# Altium schematic symbol library SB.SCHLIB: 12 symbols
Pins are listed as number, name and electrical type; pins without a type are passive.

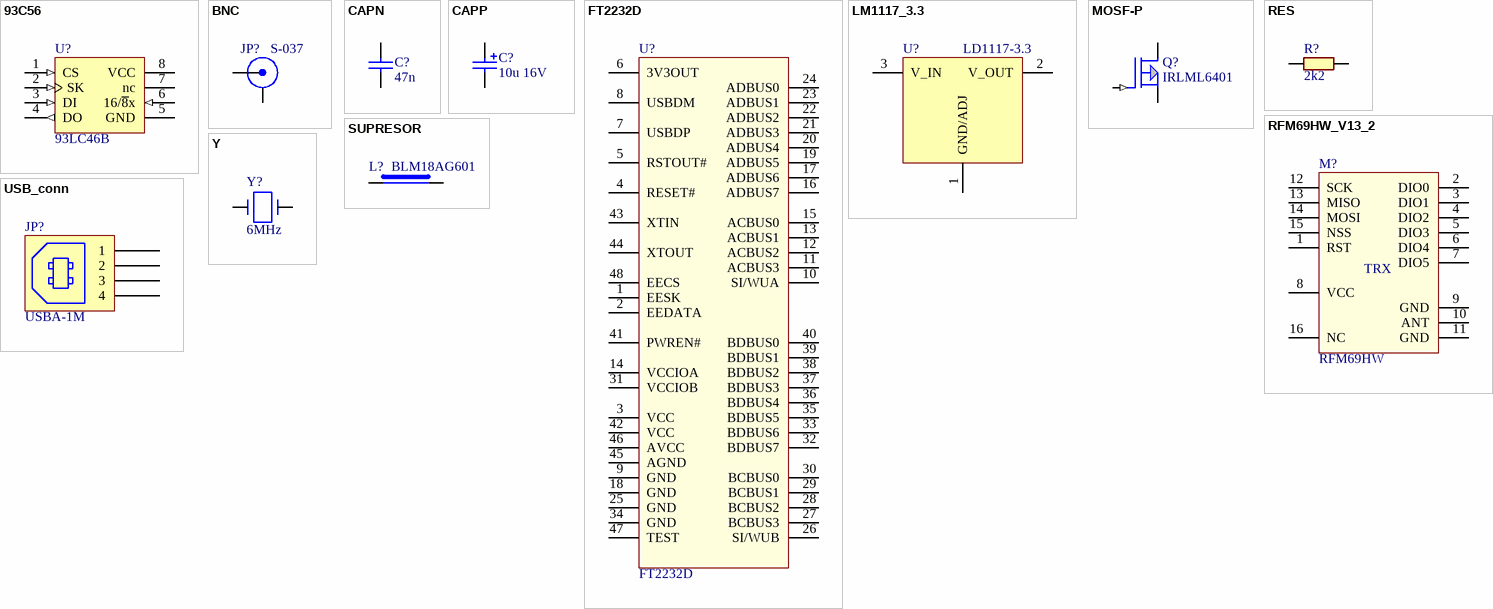
[diagram p0: symbols 93C56 to Y]

## 93C56
designator U?, comment 93LC46B
3-wire EEPROM; Вид: Мікросхема; Производитель: *; Допустимая замена: *; Цена: *; PDF файл: *; Температурный диапазон: *; Тип: 93LC46B; Корпус: =Footprint
footprint SO8-(SOT-96-1)
footprint DIP8
footprint SOIC127P600X175-8N (SOIC, 8-Leads, Body 4,90x3,90mm, Pitch 1,27mm, IPC Medium Density)
pins: 1 CS (in), 2 SK (in), 3 DI (in), 4 DO (out), 5 GND (power), 6 16/~{8}x (in), 7 nc, 8 VCC (power)

## BNC
designator JP?, comment S-037
RF Connector; Вид: Роз'єм; Производитель: *; Допустимая замена: *; Цена: *; PDF файл: *; Температурный диапазон: *; Описание пользователя: *; Конфигурация контактов RxNN: *; *: *; Тип: S-037; Корпус: =Footprint
footprint X-004
footprint IMP
footprint ANT-R
footprint S-037
footprint S-037
footprint S-037_3D
pins: 1 X, 2 Y

## CAPN
designator C?, comment 47n
Вид: Конденсатор; Тип: 47n; Корпус: =Footprint
footprint C-0603
footprint C-0805
footprint C-1206
footprint CAPC1608X08N (Chip Capacitor, 2-Leads, Body 1,60x0,80mm, IPC Medium Density)
pins: 1, 2

## CAPP
designator C?, comment 10u 16V
Вид: Конденсатор; Тип: 10u 16V; Корпус: =Footprint
footprint 3216
footprint 3518
footprint 3527
footprint CAPMP3217X18N (Molded Capacitor, 2-Leads, Body 3,20x1,65mm, IPC Medium Density)
pins: 1, 2

## FT2232D
designator U?
Вид: Мікросхема; Тип: FT2232D; Корпус: =Footprint
footprint TSQFP50P900X900X160-48N (TSQFP, 48-Leads, Body 7,00x7,00mm, Pitch 0,50mm, IPC Medium Density)
pins: 1 EESK, 2 EEDATA, 3 VCC, 4 RESET#, 5 RSTOUT#, 6 3V3OUT, 7 USBDP, 8 USBDM, 9 GND, 10 SI/WUA, 11 ACBUS3, 12 ACBUS2, 13 ACBUS1, 14 VCCIOA, 15 ACBUS0, 16 ADBUS7, 17 ADBUS6, 18 GND, 19 ADBUS5, 20 ADBUS4, 21 ADBUS3, 22 ADBUS2, 23 ADBUS1, 24 ADBUS0, 25 GND, 26 SI/WUB, 27 BCBUS3, 28 BCBUS2, 29 BCBUS1, 30 BCBUS0, 31 VCCIOB, 32 BDBUS7, 33 BDBUS6, 34 GND, 35 BDBUS5, 36 BDBUS4, 37 BDBUS3, 38 BDBUS2, 39 BDBUS1, 40 BDBUS0, 41 PWREN#, 42 VCC, 43 XTIN, 44 XTOUT, 45 AGND, 46 AVCC, 47 TEST, 48 EECS

## LM1117_3.3
designator U?, comment LD1117-3.3
Вид: Мікросхема; Тип: LD1117-3.3; Корпус: =Footprint
footprint SOT230P700X180-4N (SOT223, 4-Leads, Body 6,50x7,00mm (avg), Pitch 2,30mm, IPC Medium Density)
pins: 1 GND/ADJ, 2 V_OUT, 3 V_IN

## MOSF-P
designator Q?, comment IRLML6401
Вид: Транзистор; Тип: IRLML6401; Корпус: =Footprint
footprint SOT-23
footprint SOT-323
footprint SOT-428-(D-PAK)
footprint SOT-89
footprint SOT95P245X110-3N (SOT23, 3-Leads, Body 2,90x2,45mm, Pitch 0,95mm, IPC Medium Density)
footprint SOT95P245X110-3N (SOT23, 3-Leads, Body 2,90x2,45mm, Pitch 0,95mm, IPC Medium Density)
pins: 1 GATE (in), 2 DRAIN, 3 SOURCE

## RES
designator R?, comment 2k2
Вид: Резистор; Тип: 2k2; Корпус: =Footprint
footprint R-0603
footprint R-0805
footprint R-1206
footprint RESC1005X05N (Chip Resistor, 2-Leads, Body 1,05x0,54mm, IPC Medium Density)
footprint RESC1608X06N (Chip Resistor, 2-Leads, Body 1,60x0,82mm, IPC Medium Density)
footprint RESC2012X07N (Chip Resistor, 2-Leads, Body 2,00x1,25mm, IPC Medium Density)
footprint RESC3216X07N (Chip Resistor, 2-Leads, Body 3,20x1,60mm, IPC Medium Density)
footprint RESC3225X07N (Chip Resistor, 2-Leads, Body 3,20x2,49mm, IPC Medium Density)
pins: 1, 2

## RFM69HW_V13_2
designator M?, comment RFM69HW
Тип: RFM69HW; Корпус: =Footprint
footprint LGA16_RFM69 (LGA, 16-Leads, RFM69HW)
pins: 1 RST, 2 DIO0, 3 DIO1, 4 DIO2, 5 DIO3, 6 DIO4, 7 DIO5, 8 VCC, 9 GND, 10 ANT, 11 GND, 12 SCK, 13 MISO, 14 MOSI, 15 NSS, 16 NC
text: TRX

## SUPRESOR
designator L?, comment BLM18AG601
Вид: Ferrite bead; Примечание: *; Производитель: *; Тип: BLM18AG601; Корпус: =Footprint
footprint L-1210
footprint LEADED
footprint CAPC1005X06N (Chip Capacitor, 2-Leads, Body 1,00x0,50mm, IPC Medium Density)
footprint CAPC1608X08N (Chip Capacitor, 2-Leads, Body 1,60x0,80mm, IPC Medium Density)
footprint CAPC2012X11N (Chip Capacitor, 2-Leads, Body 2,00x1,25mm, IPC Medium Density)
footprint CAPC3216X14N (Chip Capacitor, 2-Leads, Body 3,20x1,60mm, IPC Medium Density)
footprint CAPC3225X14N (Chip Capacitor, 2-Leads, Body 3,20x2,50mm, IPC Medium Density)
footprint CAPC4532X14N (Chip Capacitor, 2-Leads, Body 4,50x3,20mm, IPC Medium Density)
footprint INDC1608X10N (Chip Inductor, 2-Leads, Body 1,60x0,80mm, IPC Medium Density)
pins: 1, 2

## USB_conn
designator JP?, comment USBA-1M
USB_connector; Вид: Роз'єм; Тип: USBA-1M; Корпус: =Footprint
footprint CU02SAH0000 (USB_connector)
footprint USB(BR)
footprint USB_A_M (thru-hole mounted USB-A jack)
footprint USB_A_M (thru-hole mounted USB-A jack)
footprint USB_A_M_SMD (usb male smd mount)
pins: 1, 2, 3, 4

## Y
designator Y?, comment 6MHz
Вид: Кварц; Производитель: *; CrossRef: *; Цена: *; PDF: *; T-range: *; Тип: 6MHz; Корпус: =Footprint
footprint ATS-25(49-51)
footprint XTAL-SMD
footprint XTAL_HC49P488W45L1117T490H350 (Crystal, HC-49; 4.88 mm C X 0.45 mm W 11.175 mm L X 4.90 mm T X 3.50 mm H body)
pins: 1, 2